# Altium schematic symbol library VS-6TQ045S-M3.SchLib: 1 symbol
Pins are listed as number, name and electrical type; pins without a type are passive.

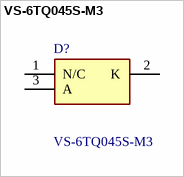
[diagram p0: symbol VS-6TQ045S-M3]

## VS-6TQ045S-M3
designator D?
Diode Schottky 45V 6A 3-Pin(2+Tab) D2PAK Tube; Manufacturer_Name: Vishay; Geometry.Height: 4.83mm; Mouser Part Number: 78-VS-6TQ045S-M3; Mouser Price/Stock: https://www.mouser.co.uk/ProductDetail/Vishay-Semiconductors/VS-6TQ045S-M3?qs=3SS1MhAOHqoxROiyL7Qyxg%3D%3D; Manufacturer_Part_Number: VS-6TQ045S-M3; Datasheet Link: http://www.vishay.com/docs/94945/vs-6tqs-m3.pdf
footprint VS6TQ045SM3
pins: 1 N/C, 2 K, 3 A